# Altium schematic symbol library 4.3pF_capacitors_0805_Components - 15.03.22 - 13.25.SchLib: 1 symbol
Pins are listed as number, name and electrical type; pins without a type are passive.

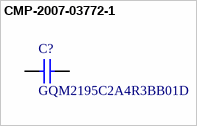
[diagram p0: symbol CMP-2007-03772-1]

## CMP-2007-03772-1
designator C?, comment GQM2195C2A4R3BB01D
Manufacturer: Murata; Part Number: GQM2195C2A4R3BB01D
footprint CAPC2013X100X45LL15T25 (Chip Capacitor, 2-Leads, Body 2.00x1.25mm, IPC High Density)
footprint CAPC2013X100X45NL15T25 (Chip Capacitor, 2-Leads, Body 2.00x1.25mm, IPC Medium Density)
footprint CAPC2013X100X45ML15T25 (Chip Capacitor, 2-Leads, Body 2.00x1.25mm, IPC Low Density)
pins: 1, 2
1 alternate drawing of the same symbol